# Altium footprint library resonator.PcbLib: 2 footprints
Each footprint in its own frame and in the unit in brackets; x right, y up, seen from the top. Pads: shape width x height; smd on the part's side, far side on the other; paste and mask are expansions set on the pad; w line width, h text height; cw(c..) or ccw(c..) is an arc to the next point about the centre after c.
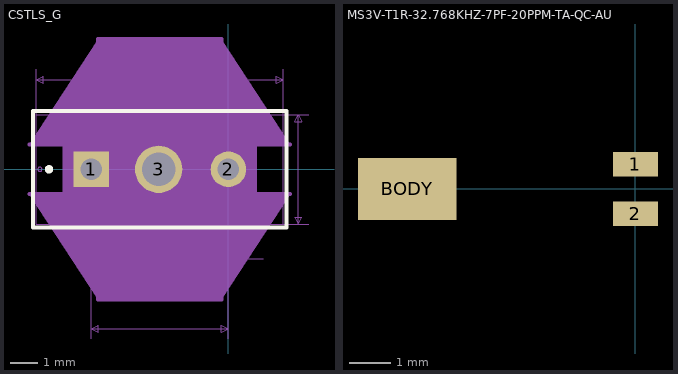
[diagram p0: the footprints below, top view; thin cyan lines are the x and y axes]

## CSTLS_G [mil]
pads (3):
  rect 51x51 hole 31 mask+0: 1(-196.85,0)
  round 51 hole 31 mask+0: 2(0,0)
  round 68 hole 48: 3(-100,0)
Top Overlay:
  circle w6: c-257.35,0 r3
  lines w6: -280.43,-83.5 83.57,-83.5 83.57,83.5 -280.43,83.5 -280.43,-83.5
Mechanical 5:
  region: 40.5,-93.5 -237.35,-93.5 -237.35,93.5 40.5,93.5
Mechanical 7:
  lines w1: -275.43,78.5 -275.43,143.5 ; -196.85,-243.5 -196.85,0 ; -150,-128.5 -100,-128.5 ; -100,-143.5 -100,0 ; 0,-243.5 0,0 0,-143.5 ; 50,-128.5 0,-128.5 ; 78.57,-78.5 115,-78.5 ; 78.57,143.5 78.57,78.5 115,78.5 ; -275.43,128.5 78.57,128.5 ; -275.43,128.5 -265.43,133.5 -265.43,123.5 -275.43,128.5 ; -196.85,-228.5 0,-228.5 ; -196.85,-228.5 -186.85,-223.5 -186.85,-233.5 -196.85,-228.5 ; -100,-128.5 -110,-123.5 -110,-133.5 -100,-128.5 ; 0,-228.5 -10,-223.5 -10,-233.5 0,-228.5 ; 0,-128.5 10,-123.5 10,-133.5 0,-128.5 ; 78.57,128.5 68.57,133.5 68.57,123.5 78.57,128.5 ; 100,-78.5 100,78.5 ; 100,-78.5 95,-68.5 105,-68.5 100,-78.5 ; 100,78.5 95,68.5 105,68.5 100,78.5
  text "Default Pad Style: EX51Y51D31P" at -473.43,-403.5 h50
  text "Pin 1 Pad Style: SX51Y51D31P" at -448.43,-328.5 h50
  text "Center Pad Style: EX68Y68D48P" at -460.93,-478.5 h50
  text "Alt 1 Pad Style: OX60Y90D30P" at -448.43,-553.5 h50
  text "Alt 2 Pad Style: OX90Y60D30P" at -448.43,-628.5 h50
  text "0.157in/3.988mm" at 120,-12.5 h25
  text "0.197in/5mm" at -167.18,-273.5 h25
  text "0.1in/2.54mm" at -125,-173.5 h25
  text "0.354in/8.992mm" at -192.18,148.5 h25
Mechanical 13:
  circle w0: c-270.43,0 r3
  lines w1: -275.43,-78.5 78.57,-78.5 78.57,78.5 -275.43,78.5 -275.43,-78.5
Mechanical 15:
  region: -285.43,-35.5 -232.35,-35.5 -232.35,35.5 -285.43,35.5 -186.93,187 -9.93,187 88.57,35.5 35.5,35.5 35.5,-35.5 88.57,-35.5 -9.93,-187 -186.93,-187
  lines w6: -285.43,-35.5 -232.35,-35.5 -232.35,35.5 -285.43,35.5 ; -186.93,-35.5 -186.93,-187 -9.93,-187 -9.93,-35.5 ; -186.93,35.5 -186.93,187 -9.93,187 -9.93,35.5 ; 88.57,-35.5 35.5,-35.5 35.5,35.5 88.57,35.5
3D body: height 10, standoff 0, extent 0,0 10,10

## MS3V-T1R-32.768KHZ-7PF-20PPM-TA-QC-AU [mm]
pads (3):
  rect 1.1x0.6 smd: 1(0,0.6) 2(0,-0.6)
  rect 2.4x1.5 smd: BODY(-5.55,0)
3D body "Quartz MS3V-T1R 32768 Hz.step": height 1.48, standoff 0, extent -6.54,-0.762 0.16,0.718